# Altium footprint library project-2022.PcbLib: 27 footprints (part 1 of 2)
Each footprint in its own frame and in the unit in brackets; x right, y up, seen from the top. Pads: shape width x height; smd on the part's side, far side on the other; paste and mask are expansions set on the pad; w line width, h text height; cw(c..) or ccw(c..) is an arc to the next point about the centre after c.
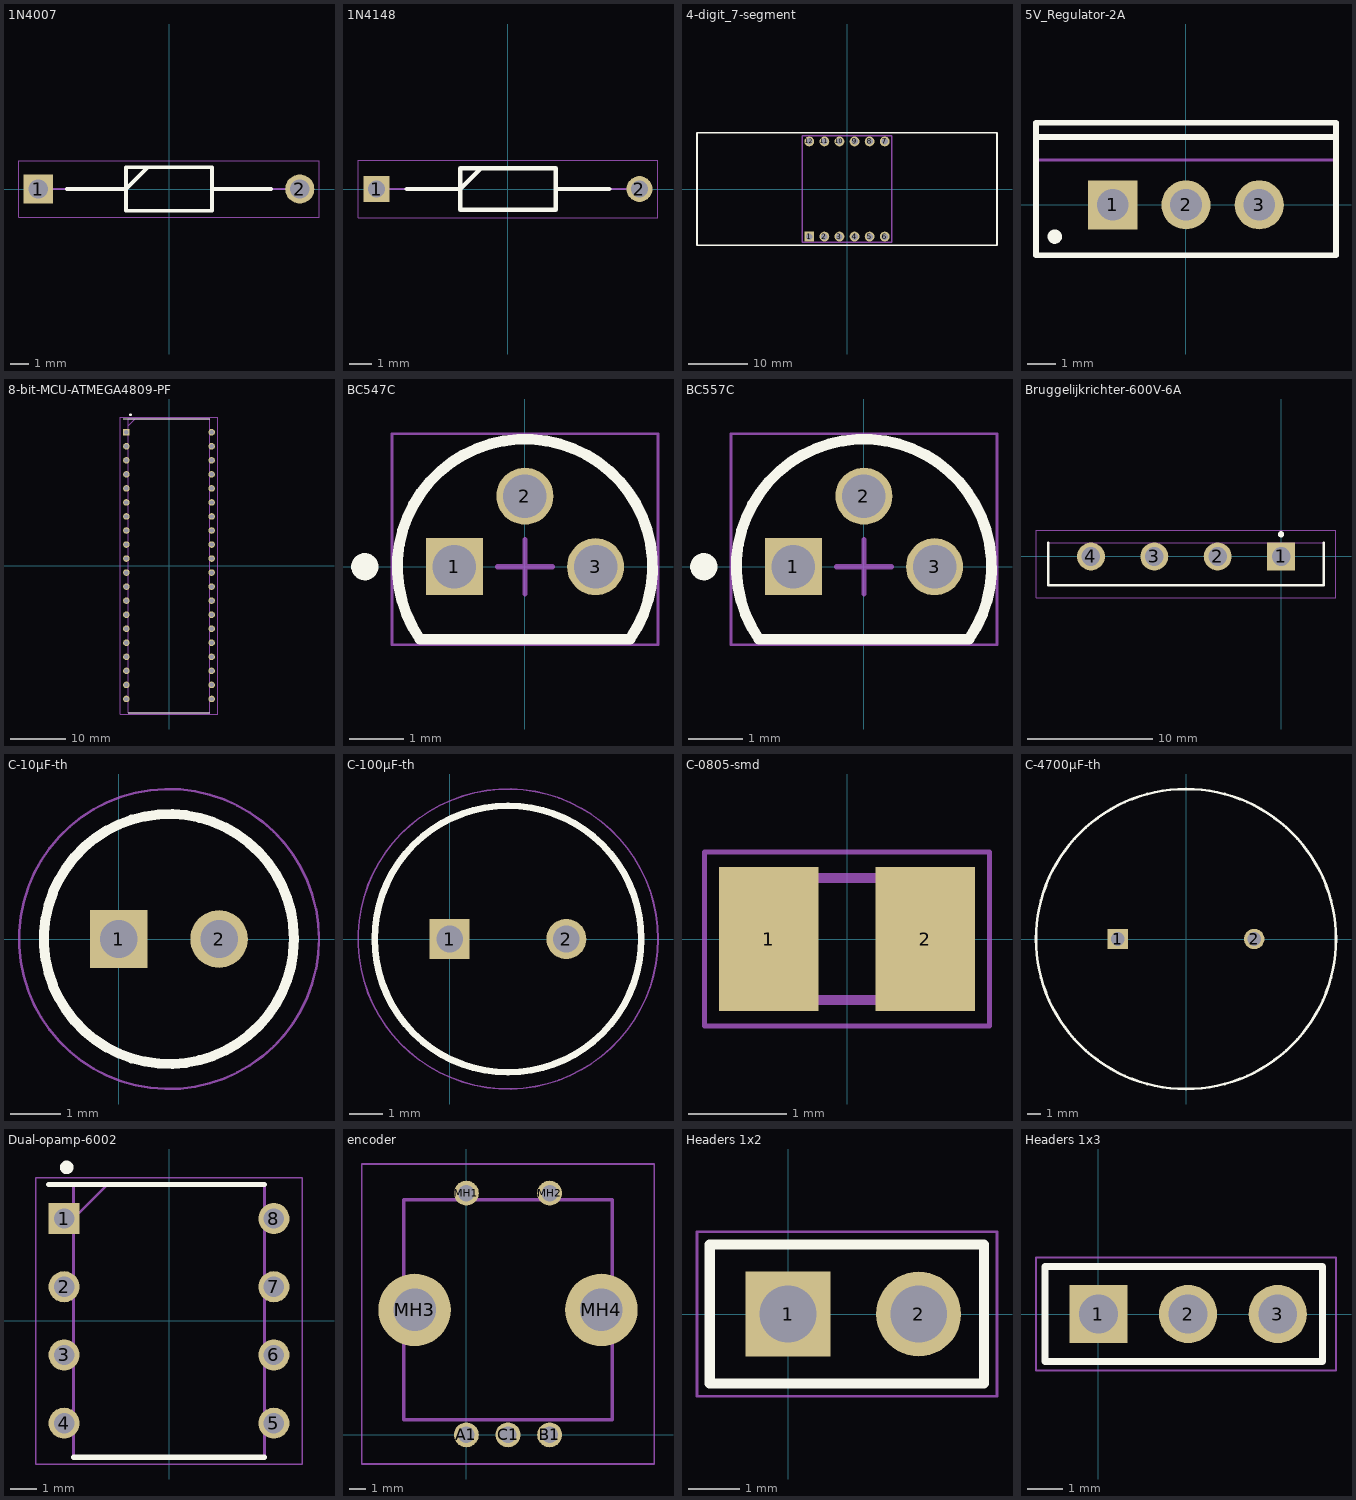
[diagram p0: the footprints below, top view; thin cyan lines are the x and y axes]

## 1N4007 [mm]
pads (2):
  rect 1.575x1.575 hole 1.05: 1(-7.05,0)
  round 1.575 hole 1.05: 2(7.05,0)
Top Overlay:
  lines w0.2: -5.5,0 -2.318,0 -1.138,1.18 ; 2.318,0 5.5,0 ; -2.318,-1.18 2.318,-1.18 2.318,1.18 -2.318,1.18 -2.318,-1.18
Mechanical 13:
  lines w0.1: -7.05,0 -2.318,0 -1.138,1.18 ; 2.318,0 7.05,0 ; -2.318,-1.18 2.317,-1.18 2.317,1.18 -2.318,1.18 -2.318,-1.18
Mechanical 15:
  lines w0.05: -8.088,-1.53 8.087,-1.53 8.087,1.53 -8.088,1.53 -8.088,-1.53
3D body "1N4007-T.stp": height 2.71, standoff -2.72, extent -7.479,-1.357 7.457,1.357

## 1N4148 [mm]
pads (2):
  rect 1.15x1.15 hole 0.75: 1(-5.85,0)
  round 1.15 hole 0.75: 2(5.85,0)
Top Overlay:
  lines w0.2: -4.5,0 -2.125,0 -1.2,0.925 ; 2.125,0 4.5,0 ; -2.125,-0.925 -2.125,0.925 2.125,0.925 2.125,-0.925 -2.125,-0.925
Mechanical 13:
  lines w0.1: -5.85,0 -2.125,0 -1.2,0.925 ; 2.125,0 5.85,0 ; -2.125,-0.925 -2.125,0.925 2.125,0.925 2.125,-0.925 -2.125,-0.925
Mechanical 15:
  lines w0.05: -6.675,-1.275 -6.675,1.275 6.675,1.275 6.675,-1.275 -6.675,-1.275
3D body "1N4148.stp": height 1.84, standoff -1.85, extent -6.128,-0.923 6.08,0.923

## 4-digit_7-segment [mm]
pads (12):
  rect 1.65x1.65 hole 1.1: 1(-6.35,-8.001)
  round 1.65 hole 1.1: 2(-3.81,-8.001) 3(-1.27,-8.001) 4(1.27,-8.001) 5(3.81,-8.001) 6(6.35,-8.001) 7(6.35,8.001) 8(3.81,8.001) 9(1.27,8.001) 10(-1.27,8.001) 11(-3.81,8.001) 12(-6.35,8.001)
Top Overlay:
  lines w0.254: -25.25,-9.5 25.25,-9.5 25.25,9.5 -25.25,9.5 -25.25,-9.5
Mechanical 1:
  lines w0.254: -7.5,-9 7.5,-9 7.5,9 -7.5,9 -7.5,-9

## 5V_Regulator-2A [mm] "TO, Thru-Hole, Vertical, Heatsink Mounted; 3 In-Line Leads; Pitch 2.54 mm"
height 19.7
pads (3):
  rect 1.7x1.7 hole 1.1: 1(-2.54,0)
  round 1.7 hole 1.1: 2(0,0) 3(2.54,0)
Top Overlay:
  circle w0.25: c-4.55,-1.1 r0.125
  lines w0.2: -5.2,2.35 5.2,2.35 ; -5.2,-1.75 -5.2,2.85 5.2,2.85 5.2,-1.75 -5.2,-1.75
Mechanical 13:
  lines w0.1: -5.2,1.55 5.2,1.55 ; -5.2,-1.75 5.2,-1.75 5.2,2.85 -5.2,2.85 -5.2,-1.75
Mechanical 15:
  lines w0.1: -0.5,0 0.5,0 ; 0,-0.5 0,0.5
3D body: height 19.7, standoff 13.05, extent -5.199,1.551 5.199,2.849
3D body: height 13.05, standoff 3.5, extent -5.25,-1.8 5.25,2.9

## 8-bit-MCU-ATMEGA4809-PF [mm]
pads (40):
  rect 1.184x1.184 hole 0.784: 1(-7.715,24.13)
  round 1.184 hole 0.784: 2(-7.715,21.59) 3(-7.715,19.05) 4(-7.715,16.51) 5(-7.715,13.97) 6(-7.715,11.43) 7(-7.715,8.89) 8(-7.715,6.35) 9(-7.715,3.81) 10(-7.715,1.27) 11(-7.715,-1.27) 12(-7.715,-3.81) 13(-7.715,-6.35) 14(-7.715,-8.89) 15(-7.715,-11.43) 16(-7.715,-13.97) 17(-7.715,-16.51) 18(-7.715,-19.05) 19(-7.715,-21.59) 20(-7.715,-24.13) 21(7.715,-24.13) 22(7.715,-21.59) 23(7.715,-19.05) 24(7.715,-16.51) 25(7.715,-13.97) 26(7.715,-11.43) 27(7.715,-8.89) 28(7.715,-6.35) 29(7.715,-3.81) 30(7.715,-1.27) 31(7.715,1.27) 32(7.715,3.81) 33(7.715,6.35) 34(7.715,8.89) 35(7.715,11.43) 36(7.715,13.97) 37(7.715,16.51) 38(7.715,19.05) 39(7.715,21.59) 40(7.715,24.13)
Top Overlay:
  circle w0.254: c-6.985,27.305 r0.127
  lines w0.2: -8.307,26.606 7.366,26.606 ; -7.366,-26.606 7.366,-26.606
Mechanical 13:
  lines w0.1: -7.366,25.336 -6.096,26.606 ; -7.366,-26.606 -7.366,26.606 7.366,26.606 7.366,-26.606 -7.366,-26.606
Mechanical 15:
  lines w0.05: -8.78,-26.856 -8.78,26.856 8.78,26.856 8.78,-26.856 -8.78,-26.856
3D body "ATMEGA4809-PF.stp": height 6.35, standoff -3.5, extent -7.861,-25.876 7.861,25.876

## BC547C [mm] "TO, 3-Leads, Body Dia 4.7mm, Pitch 1.27mm"
height 7.87
pads (3):
  rect 1.05x1.05 hole 0.8: 1(-1.3,0)
  round 1.05 hole 0.8: 2(0,1.3) 3(1.3,0)
Top Overlay:
  circle w0.25: c-2.95,0 r0.125
  lines w0.2: -1.934,-1.335 cw(c0,0) 1.934,-1.335 -1.934,-1.335
Mechanical 13:
  lines w0.1: -1.934,-1.335 cw(c0,0) 1.934,-1.335 -1.934,-1.335
Mechanical 15:
  lines w0.05: -2.45,-1.435 2.45,-1.435 2.45,2.45 -2.45,2.45 -2.45,-1.435
  lines w0.1: -0.5,0 0.5,0 ; 0,-0.5 0,0.5
3D body: height 7.87, standoff 2.54, extent -2.349,-1.334 2.357,2.359

## BC557C [mm] "TO, 3-Leads, Body Dia 4.7mm, Pitch 1.27mm"
height 7.87
pads (3):
  rect 1.05x1.05 hole 0.8: 1(-1.3,0)
  round 1.05 hole 0.8: 2(0,1.3) 3(1.3,0)
Top Overlay:
  circle w0.25: c-2.95,0 r0.125
  lines w0.2: -1.934,-1.335 cw(c0,0) 1.934,-1.335 -1.934,-1.335
Mechanical 13:
  lines w0.1: -1.934,-1.335 cw(c0,0) 1.934,-1.335 -1.934,-1.335
Mechanical 15:
  lines w0.05: -2.45,-1.435 -2.45,2.45 2.45,2.45 2.45,-1.435 -2.45,-1.435
  lines w0.1: -0.5,0 0.5,0 ; 0,-0.5 0,0.5
3D body: height 7.87, standoff 2.54, extent -2.349,-1.334 2.357,2.359

## Bruggelijkrichter-600V-6A [mm]
pads (4):
  rect 2.235x2.235 hole 1.49: 1(0,0)
  round 2.235 hole 1.49: 2(-5.08,0) 3(-10.16,0) 4(-15.24,0)
Top Overlay:
  circle w0.254: c0,1.778 r0.127
  lines w0.2: -18.645,1.108 -18.645,-2.322 3.405,-2.322 3.405,1.108
Mechanical 13:
  lines w0.1: -18.645,-2.322 3.405,-2.322 3.405,1.108 -18.645,1.108 -18.645,-2.322
Mechanical 15:
  lines w0.1: -19.645,-3.322 4.405,-3.322 4.405,2.117 -19.645,2.117 -19.645,-3.322
3D body "GBU6J-E3_45.stp": height 18.9, standoff -5, extent -18.645,-2.322 3.405,1.108

## C-10µF-th [mm]
pads (2):
  rect 1.15x1.15 hole 0.75: 1(0,0)
  round 1.15 hole 0.75: 2(2,0)
Top Overlay:
  circle w0.2: c1,0 r2.5
Mechanical 13:
  circle w0.1: c1,0 r2.5
Mechanical 15:
  circle w0.05: c1,0 r3
3D body "ECA-1HM100I.stp": height 12, standoff -10, extent -1.75,-2.75 3.75,2.75

## C-100µF-th [mm]
pads (2):
  rect 1.2x1.2 hole 0.8: 1(0,0)
  round 1.2 hole 0.8: 2(3.5,0)
Top Overlay:
  circle w0.2: c1.75,0 r4
Mechanical 13:
  circle w0.1: c1.75,0 r4
Mechanical 15:
  circle w0.05: c1.75,0 r4.5
3D body "ESK107M050AG3EA.stp": height 12.5, standoff -10, extent -2.5,-4.25 6,4.25

## C-0805-smd [mm]
pads (2):
  rect 1.02x1.47 smd: 1(-0.8,0) 2(0.8,0)
Mechanical 13:
  lines w0.1: -1,-0.625 -1,0.625 1,0.625 1,-0.625 -1,-0.625
Mechanical 15:
  lines w0.05: -1.46,-0.89 -1.46,0.89 1.46,0.89 1.46,-0.89 -1.46,-0.89
3D body "C0805C301G5GACTU.stp": height 0.88, standoff 0, extent -1.1,-0.73 1.1,0.72

## C-4700µF-th [mm]
pads (2):
  rect 1.5x1.5 hole 1: 1(-5,0)
  round 1.5 hole 1: 2(5,0)
Top Overlay:
  circle w0.2: c0,0 r11

## Dual-opamp-6002 [mm]
pads (8):
  rect 1.158x1.158 hole 0.758: 1(-3.905,3.81)
  round 1.158 hole 0.758: 2(-3.905,1.27) 3(-3.905,-1.27) 4(-3.905,-3.81) 5(3.905,-3.81) 6(3.905,-1.27) 7(3.905,1.27) 8(3.905,3.81)
Top Overlay:
  circle w0.254: c-3.81,5.715 r0.127
  lines w0.2: -4.484,5.08 3.556,5.08 ; -3.556,-5.08 3.556,-5.08
Mechanical 13:
  lines w0.1: -3.556,3.81 -2.286,5.08 ; -3.556,-5.08 3.556,-5.08 3.556,5.08 -3.556,5.08 -3.556,-5.08
Mechanical 15:
  lines w0.05: -4.956,-5.33 4.956,-5.33 4.956,5.33 -4.956,5.33 -4.956,-5.33
3D body "MCP6002-E_P.stp": height 5.33, standoff -3.5, extent -4.045,-4.75 4.045,4.75

## encoder [mm]
pads (7):
  round 1.5 hole 1: A1(0,0) B1(5,0) C1(2.5,0) MH1(0,14.5) MH2(5,14.5)
  round 4.35 hole 2.54: MH3(-3.1,7.5) MH4(8.1,7.5)
Mechanical 13:
  lines w0.2: -3.75,0.9 -3.75,14.1 8.75,14.1 8.75,0.9 -3.75,0.9
Mechanical 15:
  lines w0.1: -6.275,-1.75 -6.275,16.25 11.275,16.25 11.275,-1.75 -6.275,-1.75
3D body "RE130F-41-175F-12P.stp": height 17.6, standoff -5, extent -4.439,-0.399 9.45,14.899

## Headers 1x2 [mm]
pads (2):
  rect 1.65x1.65 hole 1.1: 1(0,0)
  round 1.65 hole 1.1: 2(2.54,0)
Top Overlay:
  lines w0.2: -1.52,-1.35 3.81,-1.35 3.81,1.35 -1.52,1.35 -1.52,-1.35
Mechanical 13:
  lines w0.1: -1.52,-1.35 3.81,-1.35 3.81,1.35 -1.52,1.35 -1.52,-1.35
Mechanical 15:
  lines w0.05: -1.77,-1.6 4.064,-1.6 4.064,1.6 -1.77,1.6 -1.77,-1.6

## Headers 1x3 [mm]
pads (3):
  rect 1.65x1.65 hole 1.1: 1(0,0)
  round 1.65 hole 1.1: 2(2.54,0) 3(5.08,0)
Top Overlay:
  lines w0.2: -1.52,-1.35 -1.52,1.35 6.35,1.35 6.35,-1.35 -1.52,-1.35
Mechanical 13:
  lines w0.1: -1.52,-1.35 -1.52,1.35 6.35,1.35 6.35,-1.35 -1.52,-1.35
Mechanical 15:
  lines w0.05: -1.77,-1.6 -1.77,1.6 6.731,1.6 6.731,-1.6 -1.77,-1.6